# Altium integrated library USB, DVI, HDMI Connectors.IntLib: 3 symbols
Pins are listed as number, name and electrical type; pins without a type are passive.

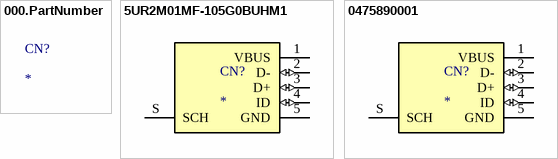
[diagram p0: symbols 000.PartNumber to 0475890001]

## 000.PartNumber
designator CN?
Digikey Description; Manufacturer: *; Series: *; Package: *; Connector Type: *; Number of Contacts: *; Gender: *; Specifications: *; Mounting Type: *; Mounting Feature: *; Termination: *; Features: *; Ingress Protection: *; Operating Temperature: *; Current Rating (Amps): *; Voltage - Rated: *; Mating Cycles: *; Shielding: *; Contact Finish: *; Shell/Shielding Material: *; Material Flammability Rating: *; Insulation Color: *; Number of Ports: *; Base Product Number: *; Ozdisan Link: *; Digikey Link: *

## 5UR2M01MF-105G0BUHM1
designator CN?
CONN RCPT MICRO USB AB 5P SMD RA; Manufacturer: Amtek Technology; Connector Type: USB - micro AB; Number of Contacts: 5; Gender: Receptacle; Current Rating (Amps): 1A, 1.8A; Voltage - Rated: 30VAC; Mating Cycles: 10000; Shielding: Shielded; Material Flammability Rating: UL94 V-0; Number of Ports: 1; Series: 5UR2M01MF; Package: Tape & Reel (TR); Specifications: -; Mounting Type: Surface Mount, Right Angle; Mounting Feature: Bottom Mount, Horizontal; Termination: Solder; Features: -; Ingress Protection: -; Operating Temperature: -30°C ~ 85°C; Contact Finish: Gold; Shell/Shielding Material: Steel, Stainless; Insulation Color: Black; Base Product Number: -; Ozdisan Link: https://ozdisan.com/konnektor-ve-baglanti-elemanlari/usb-dvi-hdmi-konnektorler/usb-konnektorler/5UR2M01MF-105G0BUHM1; Digikey Link: -
footprint 5UR2M01MF-105G0BUHM1
pins: 1 VBUS, 2 D- (io), 3 D+ (io), 4 ID (io), 5 GND, S SCH

## 0475890001
designator CN?
CONN RCPT MICRO USB AB 5P SMD RA; Manufacturer: Molex; Connector Type: USB - micro AB; Number of Contacts: 5; Gender: Receptacle; Current Rating (Amps): 1A, 1.8A; Voltage - Rated: 30VAC; Mating Cycles: 10000; Shielding: Shielded; Material Flammability Rating: UL94 V-0; Number of Ports: 1; Base Product Number: 047589; Series: 47589; Package: Tape & Reel (TR); Specifications: -; Mounting Type: Surface Mount, Right Angle; Through Hole; Mounting Feature: Bottom Mount, Horizontal; Termination: Solder; Features: Pick and Place, Solder Retention; Ingress Protection: -; Operating Temperature: -35°C ~ 85°C; Contact Finish: Gold; Shell/Shielding Material: Steel, Stainless; Insulation Color: Black; Ozdisan Link: https://ozdisan.com/konnektor-ve-baglanti-elemanlari/usb-dvi-hdmi-konnektorler/usb-konnektorler/MOLEX-0475890001; Digikey Link: https://www.digikey.com/en/products/detail/molex/0475890001/1832253?s=N4IgTCBcDaIAwBYDsBWAHATjtgjCAugL5A
footprint 0475890001
pins: 1 VBUS, 2 D- (io), 3 D+ (io), 4 ID (io), 5 GND, S SCH